# EAGLE library part NTHD4508N (library Discrete)
On-Semi Power MOFSET, 20V, 4.1A, Dual N-Channel
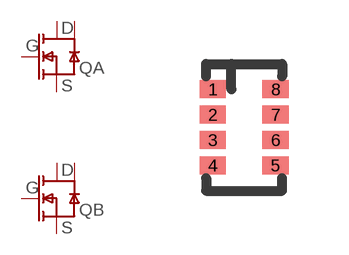
[diagram p7: symbol with the pads of CHIPFET; footprint CHIPFET]

Designator prefix Q; gates A=MOSFET-N2D B=MOSFET-N2D

## NTHD4508NT1  [CHIPFET]
1  A:S1
2  A:G1
3  B:S1
4  B:G1
5  B:D1B
6  B:D1A
7  A:D1B
8  A:D1A

## Footprint CHIPFET (pad centres in mm)
ON Semi ChipFET package
smd 0.66 x 0.45: 1 -0.785,0.952; 2 -0.785,0.317; 3 -0.785,-0.318; 4 -0.785,-0.953; 5 0.786,-0.953; 6 0.786,-0.318; 7 0.786,0.317; 8 0.786,0.952